# Altium integrated library ON Semi Comm Phase Locked Loop.IntLib: 11 symbols
Pins are listed as number, name and electrical type; pins without a type are passive.

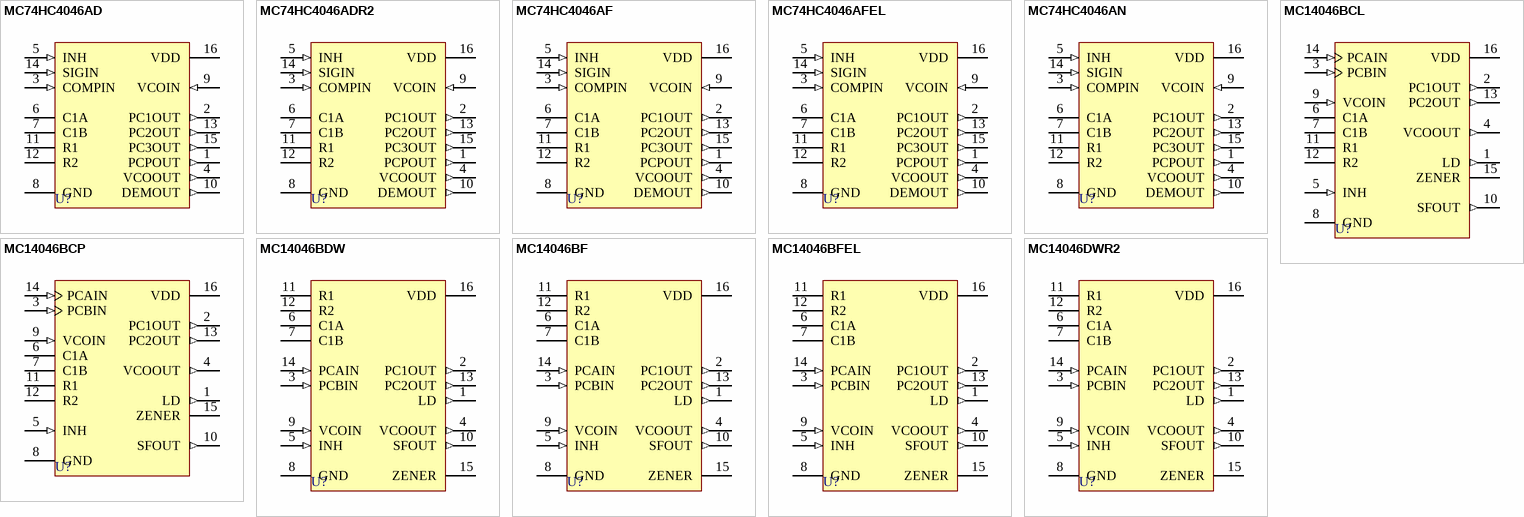
[diagram p0: symbols MC74HC4046AD to MC14046DWR2]

## MC74HC4046AD
designator U?
Phase Locked Loop with VCO; Published: 15-Apr-2002; LatestRevisionDate: 13-Apr-2006; LatestRevisionNote: IPC-7351 Footprint Added.; DatasheetVersion: Mar-2000; PackageVersion: Oct-1999; PackageReference: 751B-05; Publisher: Altium Limited; PackageDescription: 16-Pin Small Outline Integrated Circuit 1.27 mm Pitch; Code_JEDEC: MS-012-AC; Code_IPC: SOIC127P600-16; ComponentLink1Description: Manufacturer Link; ComponentLink1URL: http://www.onsemi.com/; ComponentLink2Description: Datasheet; ComponentLink2URL: http://www.onsemi.com/pub/Collateral/MC74HC4046A-D.PDF
footprint 751B-05_N (SOIC, 16-Leads, Body 9.9x3.9mm, Pitch 1.27mm, IPC Medium Density)
footprint 751B-05_L (SOIC, 16-Leads, Body 9.9x3.9mm, Pitch 1.27mm, IPC High Density)
footprint 751B-05_M (SOIC, 16-Leads, Body 9.9x3.9mm, Pitch 1.27mm, IPC Low Density)
signal-integrity model MC74HC4046AD
pins: 1 PCPOUT (out), 2 PC1OUT (out), 3 COMPIN (in), 4 VCOOUT (out), 5 INH (in), 6 C1A, 7 C1B, 8 GND (power), 9 VCOIN (in), 10 DEMOUT (out), 11 R1, 12 R2, 13 PC2OUT (out), 14 SIGIN (in), 15 PC3OUT (out), 16 VDD (power)

## MC74HC4046ADR2
designator U?
Phase Locked Loop with VCO; Published: 15-Apr-2002; LatestRevisionDate: 13-Apr-2006; LatestRevisionNote: IPC-7351 Footprint Added.; DatasheetVersion: Mar-2000; PackageVersion: Oct-1999; PackageReference: 751B-05; Publisher: Altium Limited; PackageDescription: 16-Pin Small Outline Integrated Circuit 1.27 mm Pitch; Code_JEDEC: MS-012-AC; Code_IPC: SOIC127P600-16; ComponentLink1Description: Manufacturer Link; ComponentLink1URL: http://www.onsemi.com/; ComponentLink2Description: Datasheet; ComponentLink2URL: http://www.onsemi.com/pub/Collateral/MC74HC4046A-D.PDF
footprint 751B-05_N (SOIC, 16-Leads, Body 9.9x3.9mm, Pitch 1.27mm, IPC Medium Density)
footprint 751B-05_L (SOIC, 16-Leads, Body 9.9x3.9mm, Pitch 1.27mm, IPC High Density)
footprint 751B-05_M (SOIC, 16-Leads, Body 9.9x3.9mm, Pitch 1.27mm, IPC Low Density)
signal-integrity model MC74HC4046ADR2
pins: 1 PCPOUT (out), 2 PC1OUT (out), 3 COMPIN (in), 4 VCOOUT (out), 5 INH (in), 6 C1A, 7 C1B, 8 GND (power), 9 VCOIN (in), 10 DEMOUT (out), 11 R1, 12 R2, 13 PC2OUT (out), 14 SIGIN (in), 15 PC3OUT (out), 16 VDD (power)

## MC74HC4046AF
designator U?
Phase Locked Loop with VCO; Published: 15-Apr-2002; LatestRevisionDate: 13-Apr-2006; LatestRevisionNote: IPC-7351 Footprint Added.; DatasheetVersion: Mar-2000; PackageVersion: 1997; PackageReference: 966-01; Publisher: Altium Limited; PackageDescription: 16-Pin Small Outline Package 1.27 mm Pitch; ComponentLink1Description: Manufacturer Link; ComponentLink1URL: http://www.onsemi.com/; ComponentLink2Description: Datasheet; ComponentLink2URL: http://www.onsemi.com/pub/Collateral/MC74HC4046A-D.PDF
footprint 966-01_N (SOP, 16-Leads, Body 10.2x5.3mm, Pitch 1.27mm, IPC Medium Density)
footprint 966-01_L (SOP, 16-Leads, Body 10.2x5.3mm, Pitch 1.27mm, IPC High Density)
footprint 966-01_M (SOP, 16-Leads, Body 10.2x5.3mm, Pitch 1.27mm, IPC Low Density)
signal-integrity model MC74HC4046AF
pins: 1 PCPOUT (out), 2 PC1OUT (out), 3 COMPIN (in), 4 VCOOUT (out), 5 INH (in), 6 C1A, 7 C1B, 8 GND (power), 9 VCOIN (in), 10 DEMOUT (out), 11 R1, 12 R2, 13 PC2OUT (out), 14 SIGIN (in), 15 PC3OUT (out), 16 VDD (power)

## MC74HC4046AFEL
designator U?
Phase Locked Loop with VCO; Published: 15-Apr-2002; LatestRevisionDate: 13-Apr-2006; LatestRevisionNote: IPC-7351 Footprint Added.; DatasheetVersion: Mar-2000; PackageVersion: 1997; PackageReference: 966-01; Publisher: Altium Limited; PackageDescription: 16-Pin Small Outline Package 1.27 mm Pitch; ComponentLink1Description: Manufacturer Link; ComponentLink1URL: http://www.onsemi.com/; ComponentLink2Description: Datasheet; ComponentLink2URL: http://www.onsemi.com/pub/Collateral/MC74HC4046A-D.PDF
footprint 966-01_N (SOP, 16-Leads, Body 10.2x5.3mm, Pitch 1.27mm, IPC Medium Density)
footprint 966-01_L (SOP, 16-Leads, Body 10.2x5.3mm, Pitch 1.27mm, IPC High Density)
footprint 966-01_M (SOP, 16-Leads, Body 10.2x5.3mm, Pitch 1.27mm, IPC Low Density)
signal-integrity model MC74HC4046AFEL
pins: 1 PCPOUT (out), 2 PC1OUT (out), 3 COMPIN (in), 4 VCOOUT (out), 5 INH (in), 6 C1A, 7 C1B, 8 GND (power), 9 VCOIN (in), 10 DEMOUT (out), 11 R1, 12 R2, 13 PC2OUT (out), 14 SIGIN (in), 15 PC3OUT (out), 16 VDD (power)

## MC74HC4046AN
designator U?
Phase Locked Loop with VCO; Published: 15-Apr-2002; DatasheetVersion: Mar-2000; PackageVersion: Apr-2000; PackageReference: 648-08; Publisher: Altium Limited; PackageDescription: DIP; 16 Leads; Row Spacing 7.62 mm; Pitch 2.54 mm; Code_JEDEC: MS-001-BB; ComponentLink1Description: Manufacturer Link; ComponentLink1URL: http://www.onsemi.com/; ComponentLink2Description: Datasheet; ComponentLink2URL: http://www.onsemi.com/pub/Collateral/MC74HC4046A-D.PDF
footprint 648-08 (DIP; 16 Leads; Row Spacing 7.62 mm; Pitch 2.54 mm)
signal-integrity model MC74HC4046AN
pins: 1 PCPOUT (out), 2 PC1OUT (out), 3 COMPIN (in), 4 VCOOUT (out), 5 INH (in), 6 C1A, 7 C1B, 8 GND (power), 9 VCOIN (in), 10 DEMOUT (out), 11 R1, 12 R2, 13 PC2OUT (out), 14 SIGIN (in), 15 PC3OUT (out), 16 VDD (power)

## MC14046BCL
designator U?
Phase Locked Loop; Published: 15-Apr-2002; DatasheetVersion: 1997; PackageVersion: 1996; PackageReference: 620-10; Publisher: Altium Limited; PackageDescription: DIP; 16 Leads; Row Spacing 7.62 mm; Pitch 2.54 mm; ComponentLink1Description: Manufacturer Link; ComponentLink1URL: http://www.onsemi.com/; ComponentLink2Description: Datasheet; ComponentLink2URL: http://www.onsemi.com/pub/Collateral/MC14046B-D.PDF
footprint 620-10 (DIP; 16 Leads; Row Spacing 7.62 mm; Pitch 2.54 mm)
pins: 1 LD (out), 2 PC1OUT (out), 3 PCBIN (in), 4 VCOOUT (out), 5 INH (in), 6 C1A, 7 C1B, 8 GND (power), 9 VCOIN (in), 10 SFOUT (out), 11 R1, 12 R2, 13 PC2OUT (out), 14 PCAIN (in), 15 ZENER, 16 VDD (power)

## MC14046BCP
designator U?
Phase Locked Loop; Published: 15-Apr-2002; DatasheetVersion: 1997; PackageVersion: Apr-2000; PackageReference: 648-08; Publisher: Altium Limited; PackageDescription: DIP; 16 Leads; Row Spacing 7.62 mm; Pitch 2.54 mm; Code_JEDEC: MS-001-BB; ComponentLink1Description: Manufacturer Link; ComponentLink1URL: http://www.onsemi.com/; ComponentLink2Description: Datasheet; ComponentLink2URL: http://www.onsemi.com/pub/Collateral/MC14046B-D.PDF
footprint 648-08 (DIP; 16 Leads; Row Spacing 7.62 mm; Pitch 2.54 mm)
pins: 1 LD (out), 2 PC1OUT (out), 3 PCBIN (in), 4 VCOOUT (out), 5 INH (in), 6 C1A, 7 C1B, 8 GND (power), 9 VCOIN (in), 10 SFOUT (out), 11 R1, 12 R2, 13 PC2OUT (out), 14 PCAIN (in), 15 ZENER, 16 VDD (power)

## MC14046BDW
designator U?
Phase Locked Loop; Published: 28-Feb-2003; LatestRevisionDate: 13-Apr-2006; LatestRevisionNote: IPC-7351 Footprint Added.; DatasheetVersion: May-2001, Rev. 7; PackageVersion: Jul-1999; PackageReference: 751G-03; Publisher: Altium Limited; PackageDescription: 16-Pin Small Outline Integrated Circuit 1.27 mm Pitch; ComponentLink1Description: Manufacturer Link; ComponentLink1URL: http://www.onsemi.com/; ComponentLink2Description: Datasheet; ComponentLink2URL: http://www.onsemi.com/pub/Collateral/MC14046B-D.PDF
footprint 751G-03_N (SOIC, 16-Leads, Body 10.3x7.5mm, Pitch 1.27mm, IPC Medium Density)
footprint 751G-03_L (SOIC, 16-Leads, Body 10.3x7.5mm, Pitch 1.27mm, IPC High Density)
footprint 751G-03_M (SOIC, 16-Leads, Body 10.3x7.5mm, Pitch 1.27mm, IPC Low Density)
pins: 1 LD (out), 2 PC1OUT (out), 3 PCBIN (in), 4 VCOOUT (out), 5 INH (in), 6 C1A, 7 C1B, 8 GND (power), 9 VCOIN (in), 10 SFOUT (out), 11 R1, 12 R2, 13 PC2OUT (out), 14 PCAIN (in), 15 ZENER, 16 VDD (power)

## MC14046BF
designator U?
Phase Locked Loop; Published: 28-Feb-2003; LatestRevisionDate: 13-Apr-2006; LatestRevisionNote: IPC-7351 Footprint Added.; DatasheetVersion: May-2001, Rev. 7; PackageVersion: 1997; PackageReference: 966-01; Publisher: Altium Limited; PackageDescription: 16-Pin Small Outline Package 1.27 mm Pitch; ComponentLink1Description: Manufacturer Link; ComponentLink1URL: http://www.onsemi.com/; ComponentLink2Description: Datasheet; ComponentLink2URL: http://www.onsemi.com/pub/Collateral/MC14046B-D.PDF
footprint 966-01_N (SOP, 16-Leads, Body 10.2x5.3mm, Pitch 1.27mm, IPC Medium Density)
footprint 966-01_L (SOP, 16-Leads, Body 10.2x5.3mm, Pitch 1.27mm, IPC High Density)
footprint 966-01_M (SOP, 16-Leads, Body 10.2x5.3mm, Pitch 1.27mm, IPC Low Density)
pins: 1 LD (out), 2 PC1OUT (out), 3 PCBIN (in), 4 VCOOUT (out), 5 INH (in), 6 C1A, 7 C1B, 8 GND (power), 9 VCOIN (in), 10 SFOUT (out), 11 R1, 12 R2, 13 PC2OUT (out), 14 PCAIN (in), 15 ZENER, 16 VDD (power)

## MC14046BFEL
designator U?
Phase Locked Loop; Published: 28-Feb-2003; LatestRevisionDate: 13-Apr-2006; LatestRevisionNote: IPC-7351 Footprint Added.; DatasheetVersion: May-2001, Rev. 7; PackageVersion: 1997; PackageReference: 966-01; Publisher: Altium Limited; PackageDescription: 16-Pin Small Outline Package 1.27 mm Pitch; ComponentLink1Description: Manufacturer Link; ComponentLink1URL: http://www.onsemi.com/; ComponentLink2Description: Datasheet; ComponentLink2URL: http://www.onsemi.com/pub/Collateral/MC14046B-D.PDF
footprint 966-01_N (SOP, 16-Leads, Body 10.2x5.3mm, Pitch 1.27mm, IPC Medium Density)
footprint 966-01_L (SOP, 16-Leads, Body 10.2x5.3mm, Pitch 1.27mm, IPC High Density)
footprint 966-01_M (SOP, 16-Leads, Body 10.2x5.3mm, Pitch 1.27mm, IPC Low Density)
pins: 1 LD (out), 2 PC1OUT (out), 3 PCBIN (in), 4 VCOOUT (out), 5 INH (in), 6 C1A, 7 C1B, 8 GND (power), 9 VCOIN (in), 10 SFOUT (out), 11 R1, 12 R2, 13 PC2OUT (out), 14 PCAIN (in), 15 ZENER, 16 VDD (power)

## MC14046DWR2
designator U?
Phase Locked Loop; Published: 28-Feb-2003; LatestRevisionDate: 13-Apr-2006; LatestRevisionNote: IPC-7351 Footprint Added.; DatasheetVersion: May-2001, Rev. 7; PackageVersion: Jul-1999; PackageReference: 751G-03; Publisher: Altium Limited; PackageDescription: 16-Pin Small Outline Integrated Circuit 1.27 mm Pitch; ComponentLink1Description: Manufacturer Link; ComponentLink1URL: http://www.onsemi.com/; ComponentLink2Description: Datasheet; ComponentLink2URL: http://www.onsemi.com/pub/Collateral/MC14046B-D.PDF
footprint 751G-03_N (SOIC, 16-Leads, Body 10.3x7.5mm, Pitch 1.27mm, IPC Medium Density)
footprint 751G-03_L (SOIC, 16-Leads, Body 10.3x7.5mm, Pitch 1.27mm, IPC High Density)
footprint 751G-03_M (SOIC, 16-Leads, Body 10.3x7.5mm, Pitch 1.27mm, IPC Low Density)
pins: 1 LD (out), 2 PC1OUT (out), 3 PCBIN (in), 4 VCOOUT (out), 5 INH (in), 6 C1A, 7 C1B, 8 GND (power), 9 VCOIN (in), 10 SFOUT (out), 11 R1, 12 R2, 13 PC2OUT (out), 14 PCAIN (in), 15 ZENER, 16 VDD (power)